# EAGLE library part CS5171ED8G (library ON Semiconductor_By_element14_Batch_1)
1.5 A 280 kHz/560 kHz Boost Regulators
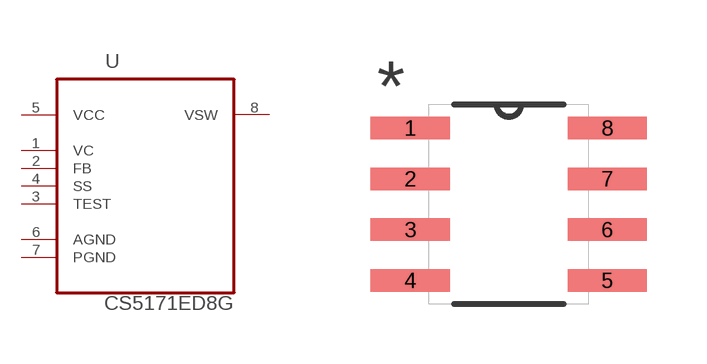
[diagram p20: symbol with the pads of SOIC127P600X175-8N; footprint SOIC127P600X175-8N]

Designator prefix U

## CS5171ED8G (MPN: CS5171ED8G; OC_FARNELL: -; OC_NEWARK: 26K3578; PACKAGE: SOIC-8; SUPPLIER: ON Semiconductor)  [SOIC127P600X175-8N]
1  VC  in
2  FB  in
3  TEST  pas
4  SS  pas
5  VCC  pwr
6  AGND  pas
7  PGND  pas
8  VSW  out

## Footprint SOIC127P600X175-8N (pad centres in mm)
smd 1.981 x 0.559: 1 -2.464,1.905; 2 -2.464,0.635; 3 -2.464,-0.635; 4 -2.464,-1.905; 5 2.464,-1.905; 6 2.464,-0.635; 7 2.464,0.635; 8 2.464,1.905